# Altium integrated library IntegratedCircuit - Copy.IntLib: 190 symbols (part 3 of 3)
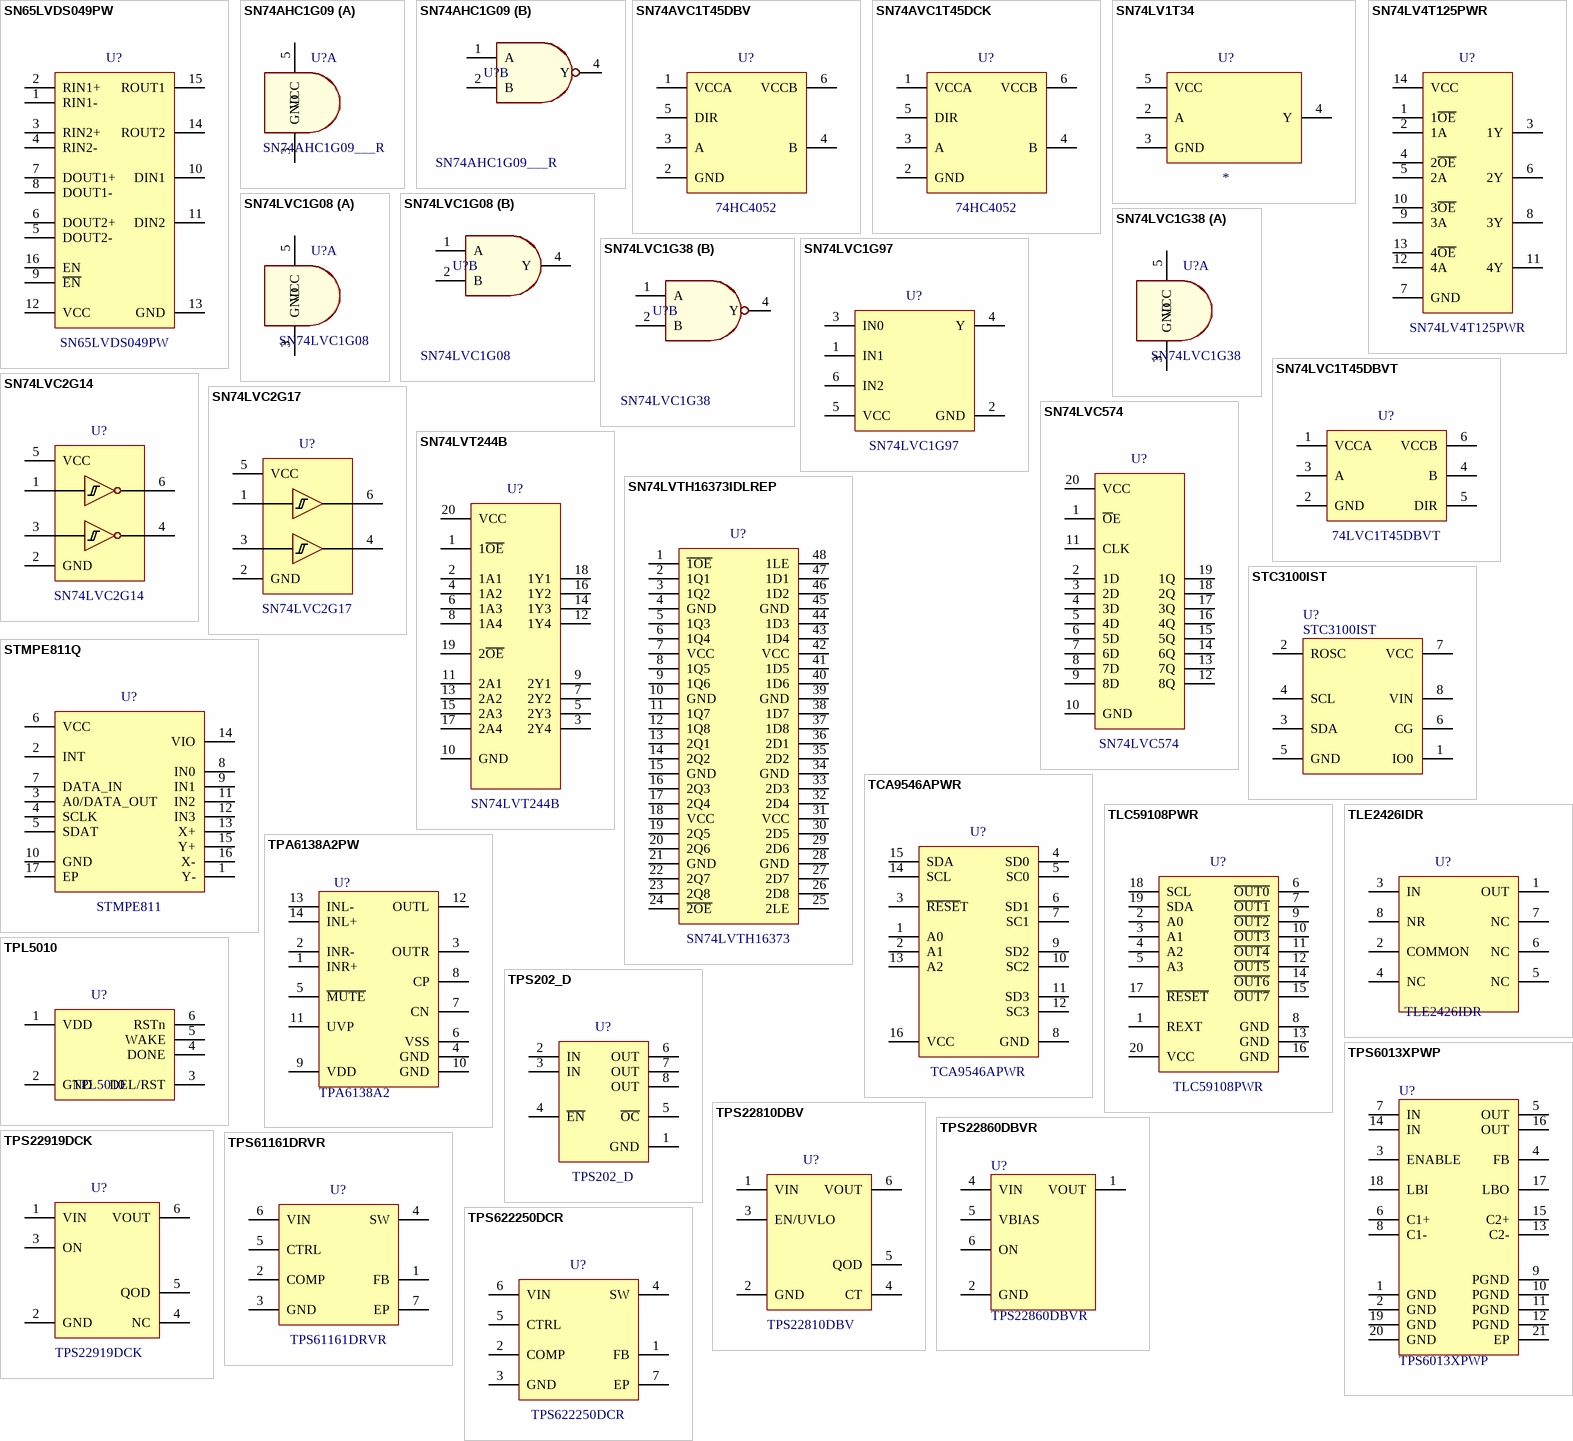
[diagram p11: symbols SN65LVDS049PW to TPS622250DCR]

## TLE2426IDR
designator U?
Références de tension Rail Virtual Ground; Manufacturer: Texas Instruments; Value: TLE2426IDR; Mouser No.: 595-TLE2426IDR
footprint SO8 P1.27 C4.0X5.0 H1.75 (8-Pin Small Outline Integrated Circuit 1.27 mm Pitch, IPC Medium Density)
pins: 1 OUT "Ground", 2 COMMON "Input voltage", 3 IN "Input voltage", 4 NC "Enable input. Logic-low turns on power switch.", 5 NC "Overcurrent. Logic output, active-low", 6 NC "Power-switch output", 7 NC "Power-switch output", 8 NR "Power-switch output"

## TPA6138A2PW
designator U?, comment TPA6138A2
DirectPath Headphone Driver With Adjustable Gain; Value: TPA6138A2
footprint TSSOP14 P0.65 C4.4x5.0 H1.1 (TSSOP, 14-Leads, Body 5x4.4mm, Pitch 0.65mm, IPC Medium Density)
pins: 1 INR+ "Right-channel OPAMP positive input", 2 INR- "Right-channel OPAMP negative input", 3 OUTR "Right-channel OPAMP output", 4 GND "Ground", 5 ~{MUTE} "Mute, active-low", 6 VSS "Supply voltage", 7 CN "Charge-pump flying capacitor negative connection", 8 CP "Charge-pump flying capacitor positive connection", 9 VDD "Positive supply", 10 GND "Ground", 11 UVP "Undervoltage protection; internal pull-up, unconnected if UVP function is unused.", 12 OUTL "Left-channel OPAMP output", 13 INL- "Left-channel OPAMP negative input", 14 INL+ "Left-channel OPAMP positive input"

## TPL5010
designator U?
Nano-PowerSystemTimer With WatchdogFunction; Value: TPL5010
footprint SOT23-6 P0.95 C1.5x3.0 H1.3 (SOT23, 6-Leads, Body 1.6x3.0mm, Pitch 0.95mm, IPC Medium Density)
pins: 1 VDD, 2 GND, 3 DEL/RST, 4 DONE, 5 WAKE, 6 RSTn

## TPS202_D
designator U?
Power distribution switch; Value: TPS202_D
footprint SO8 P1.27 C4.0X5.0 H1.75 (8-Pin Small Outline Integrated Circuit 1.27 mm Pitch, IPC Medium Density)
pins: 1 GND "Ground", 2 IN "Input voltage", 3 IN "Input voltage", 4 ~{EN} "Enable input. Logic-low turns on power switch.", 5 ~{OC} "Overcurrent. Logic output, active-low", 6 OUT "Power-switch output", 7 OUT "Power-switch output", 8 OUT "Power-switch output"

## TPS6013XPWP
designator U?
Regulated 5-V, 300-mA High-Efficiency Charge Pump DC-DC Converters; Value: TPS6013XPWP
footprint TSSOP20 P0.65 T2.4x3.4 C4.4x6.6 H1.2 (SOP, 20-Leads, Body 6.4x4.4mm, Pitch 0.65mm, Thermal Pad 2.4x3.4mm, IPC Medium Density)
pins: 1 GND (power) "Ground. Analog ground for internal reference and control circuitry. Connect to PGND through a short trace.", 2 GND (power) "Ground. Analog ground for internal reference and control circuitry. Connect to PGND through a short trace.", 3 ENABLE "ENABLE input. Connect ENABLE to IN for normal operation. When ENABLE is a logic low, the device turns off and the supply current decreases to 0.05 uA. The output is disconnected from the input when the device is placed in (See Datasheet)", 4 FB "Feedback input. Connect FB to OUT as close to the load as possible to achieve best regulation. Resistive divider is on the chip to match the internal reference voltage of 1.21 V.", 5 OUT (power) "Regulated power output. Connect both OUT terminals through a short trace and bypass OUT to GND with the output filter capacitor CO.", 6 C1+ "Positive terminal of the flying capacitor C1", 7 IN (power) "Supply input. Connect to an input supply in the 1.8-V to 3.6-V range. Bypass IN to PGND with a (CO/2) uF capacitor.Connect both INs through a short trace.", 8 C1- "Negative terminal of the flying capacitor C1", 9 PGND (power) "Power ground. Charge-pump current flows through this pin. Connect all PGND pins together.", 10 PGND (power) "Power ground. Charge-pump current flows through this pin. Connect all PGND pins together.", 11 PGND (power) "Power ground. Charge-pump current flows through this pin. Connect all PGND pins together.", 12 PGND (power) "Power ground. Charge-pump current flows through this pin. Connect all PGND pins together.", 13 C2- "Negative terminal of the flying capacitor C2", 14 IN (power) "Supply input. Connect to an input supply in the 1.8-V to 3.6-V range. Bypass IN to PGND with a (CO/2) uF capacitor.Connect both INs through a short trace.", 15 C2+ "Positive terminal of the flying capacitor C2", 16 OUT (power) "Regulated power output. Connect both OUT terminals through a short trace and bypass OUT to GND with the output filter capacitor CO.", 17 LBO (hiz) "Low battery detector output or power good output. Open drain output of the low battery or power-good comparator.It can sink 1 mA. A 100-kohm to 1-Mohm pullup is recommended. Leave terminal unconnected if not used.", 18 LBI "Low battery detector input (TPS60120/TPS60122/TPS60124 only). The input is compared to the internal 1.21-V reference voltage. Connect terminal to ground if the low-battery detector function is not used. On the (See Datasheet)", 19 GND (power) "Ground. Analog ground for internal reference and control circuitry. Connect to PGND through a short trace.", 20 GND (power) "Ground. Analog ground for internal reference and control circuitry. Connect to PGND through a short trace.", 21 EP "The Thermal Pad."

## TPS22810DBV
designator U?
Load Switch With Thermal Protection; Value: TPS22810DBV
footprint SOT23-6 P0.95 C1.5x3.0 H1.3 (SOT23, 6-Leads, Body 1.6x3.0mm, Pitch 0.95mm, IPC Medium Density)
pins: 1 VIN "Ground", 2 GND "Input voltage", 3 EN/UVLO "Input voltage", 4 CT "Enable input. Logic-low turns on power switch.", 5 QOD "Overcurrent. Logic output, active-low", 6 VOUT "Power-switch output"

## TPS22860DBVR
designator U?
Ultra-Low Leakage Load Switch; Value: TPS22860DBVR
footprint SOT23-6 P0.95 C1.5x3.0 H1.3 (SOT23, 6-Leads, Body 1.6x3.0mm, Pitch 0.95mm, IPC Medium Density)
pins: 1 VOUT "Power-switch output", 2 GND "Input voltage", 4 VIN "Ground", 5 VBIAS "Overcurrent. Logic output, active-low", 6 ON "Input voltage"

## TPS22919DCK
designator U?
Load Switch, Self-Protected with Controlled Rise Time; Value: TPS22919DCK
footprint SC70-6 P0.65 C1.4x2.2 H1.0 (SC70, 6-Leads, Body 2.2x1.40mm, Pitch 0.65mm, IPC Medium Density)
pins: 1 VIN "Ground", 2 GND "Input voltage", 3 ON "Input voltage", 4 NC "Enable input. Logic-low turns on power switch.", 5 QOD "Overcurrent. Logic output, active-low", 6 VOUT "Power-switch output"

## TPS61161DRVR
designator U?
White LED Drivers With Digital and PWM Brightness Control; Value: TPS61161DRVR
footprint WSON6  P0.65 T1.6X1.0 C2.0X2.0 H0.8 (6-Pin Wide Small Outline Integrated Circuit 0.65mm Pitch)
pins: 1 FB, 2 COMP, 3 GND, 4 SW, 5 CTRL, 6 VIN, 7 EP

## TPS622250DCR
designator U?
White LED Drivers With Digital and PWM Brightness Control; Value: TPS622250DCR
footprint WSON6  P0.65 T1.6X1.0 C2.0X2.0 H0.8 (6-Pin Wide Small Outline Integrated Circuit 0.65mm Pitch)
pins: 1 FB, 2 COMP, 3 GND, 4 SW, 5 CTRL, 6 VIN, 7 EP

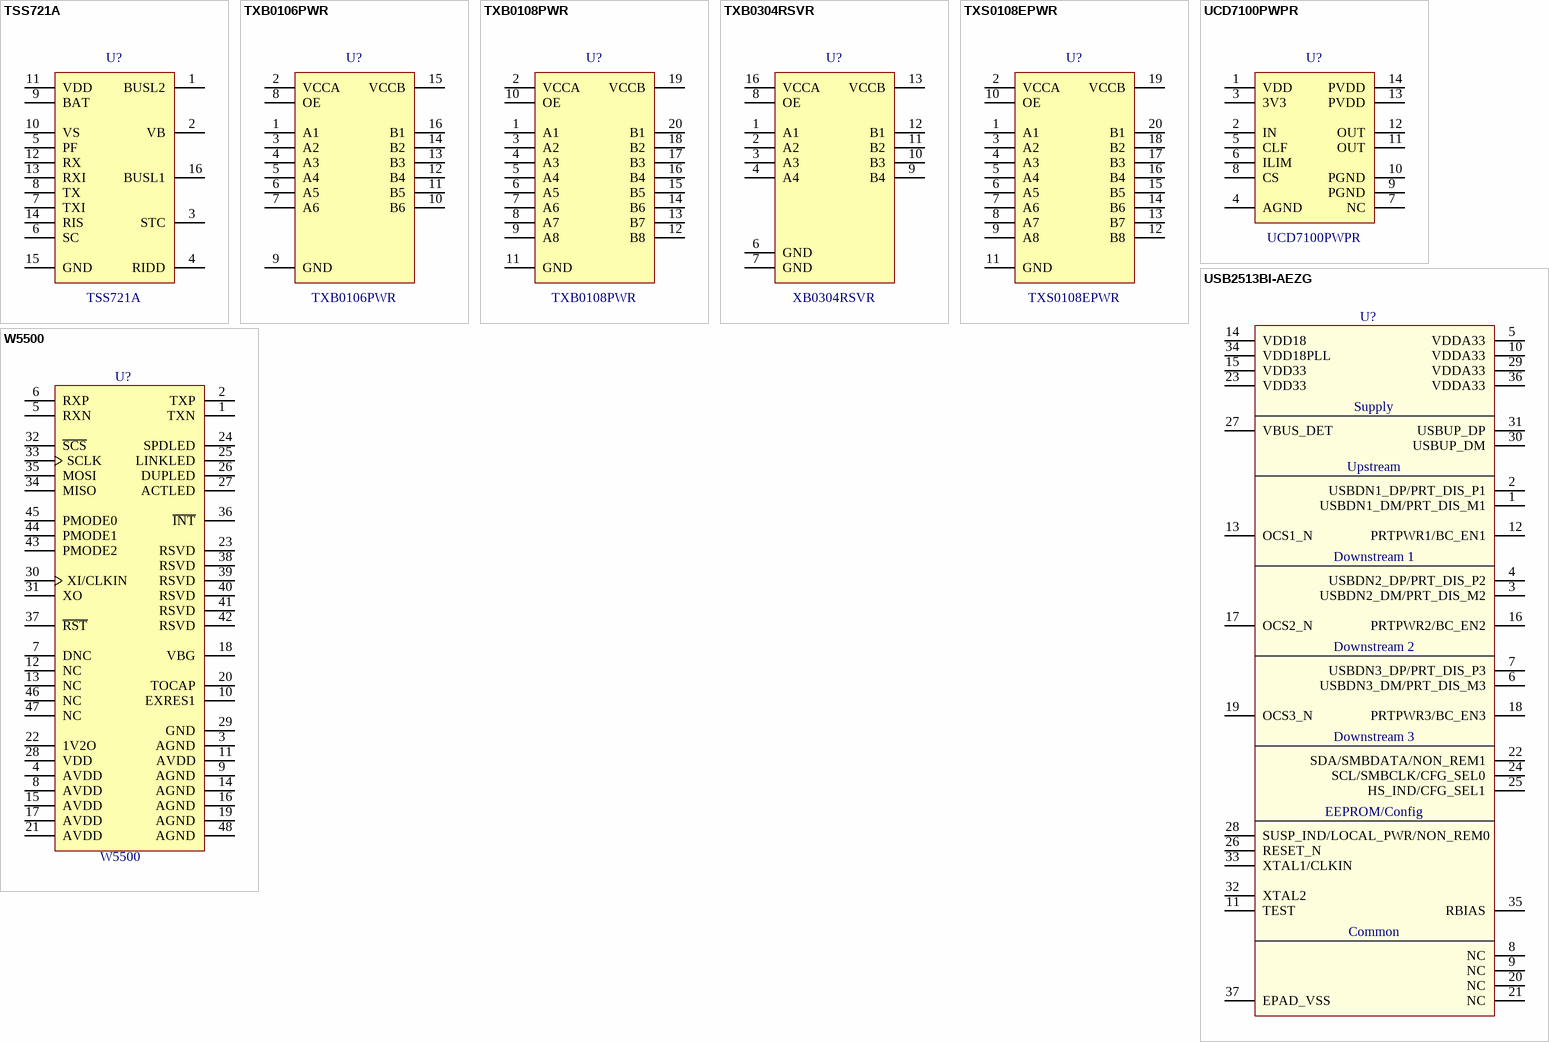
[diagram p9: symbols TSS721A to W5500]

## TSS721A
designator U?
Meter-Bus Transceiver; Value: TSS721A
footprint SO16 P1.27 C4.0x10.2 H1.75 (SOIC, 16-Leads, Body 4.0x10.20mm, Pitch 1.27mm, IPC Medium Density)
pins: 1 BUSL2, 2 VB, 3 STC, 4 RIDD, 5 PF, 6 SC, 7 TXI, 8 TX, 9 BAT, 10 VS, 11 VDD, 12 RX, 13 RXI, 14 RIS, 15 GND, 16 BUSL1

## TXB0106PWR
designator U?
6-Bit Bidirectional Level-Shifting and Voltage Translator / With Auto-Direction Sensing and ±15-kV ESD Protection; Value: TXB0106PWR
footprint TSSOP16 P0.65 C5.0x4.5 H1.1 (TSSOP-16 NXP)
pins: 1 A1, 2 VCCA, 3 A2, 4 A3, 5 A4, 6 A5, 7 A6, 8 OE, 9 GND, 10 B6, 11 B5, 12 B4, 13 B3, 14 B2, 15 VCCB, 16 B1

## TXB0108PWR
designator U?
8-Bit Bidirectional Voltage-Level Translator with Auto-Direction Sensing and  ±15-kV ESD Protection; Value: TXB0108PWR
footprint TSSOP20 P0.65 C6.6X4.4 H1.2 (TSOP, 20-Leads, Body 6.60x4.40mm, Pitch 0.65mm, IPC Medium Density)
pins: 1 A1, 2 VCCA, 3 A2, 4 A3, 5 A4, 6 A5, 7 A6, 8 A7, 9 A8, 10 OE, 11 GND, 12 B8, 13 B7, 14 B6, 15 B5, 16 B4, 17 B3, 18 B2, 19 VCCB, 20 B1

## TXB0304RSVR
designator U?, comment XB0304RSVR
4-Bit Bidirectional Level-Shifter/Voltage Translator with Automatic Direction  Sensing; Value: XB0304RSVR
footprint QFN16 P0.4 C1.8x2.6 H0.55 (QFN, 16-Leads, Body 1.8x2.6mm, Pitch 0.4mm, TI Recommended)
pins: 1 A1, 2 A2, 3 A3, 4 A4, 6 GND, 7 GND, 8 OE, 9 B4, 10 B3, 11 B2, 12 B1, 13 VCCB, 16 VCCA

## TXS0108EPWR
designator U?
TXS0108E 8-Bit Bi-directional, Level-Shifting, Voltage Translator  for Open-Drain and Push-Pull Applications; Value: TXS0108EPWR
footprint TSSOP20 P0.65 C6.6X4.4 H1.2 (TSOP, 20-Leads, Body 6.60x4.40mm, Pitch 0.65mm, IPC Medium Density)
pins: 1 A1, 2 VCCA, 3 A2, 4 A3, 5 A4, 6 A5, 7 A6, 8 A7, 9 A8, 10 OE, 11 GND, 12 B8, 13 B7, 14 B6, 15 B5, 16 B4, 17 B3, 18 B2, 19 VCCB, 20 B1

## UCD7100PWPR
designator U?
Gate Drivers Digital Control Compatible Single; Manufacturer: Texas Instruments; Value: UCD7100PWPR; Mouser No.: 595-UCD7100PWPR
footprint HTSSOP14 P0.65 C4.4X5.0 (HTSOP, 14-Leads, Body 5.00x4.40mm, Pitch 0.65mm, Thermal Pad 2.31x2.46mm)
pins: 1 VDD "Input voltage", 2 IN "Input voltage", 3 3V3 "Enable input. Logic-low turns on power switch.", 4 AGND "Power-switch output", 5 CLF "Power-switch output", 6 ILIM "Power-switch output", 7 NC "Power-switch output", 8 CS "Overcurrent. Logic output, active-low", 9 PGND "Power-switch output", 10 PGND "Power-switch output", 11 OUT "Power-switch output", 12 OUT "Power-switch output", 13 PVDD "Power-switch output", 14 PVDD "Power-switch output"

## USB2513BI-AEZG
designator U?  (value not drawn)
USB 2.0 High-Speed 3-Port Hub Controller; Value: *
footprint QFN36 P0.5 T3.7X3.7 C6.0X6.0 H1.0
pins: 1 USBDN1_DM/PRT_DIS_M1, 2 USBDN1_DP/PRT_DIS_P1, 3 USBDN2_DM/PRT_DIS_M2, 4 USBDN2_DP/PRT_DIS_P2, 5 VDDA33, 6 USBDN3_DM/PRT_DIS_M3, 7 USBDN3_DP/PRT_DIS_P3, 8 NC, 9 NC, 10 VDDA33, 11 TEST, 12 PRTPWR1/BC_EN1, 13 OCS1_N, 14 VDD18, 15 VDD33, 16 PRTPWR2/BC_EN2, 17 OCS2_N, 18 PRTPWR3/BC_EN3, 19 OCS3_N, 20 NC, 21 NC, 22 SDA/SMBDATA/NON_REM1, 23 VDD33, 24 SCL/SMBCLK/CFG_SEL0, 25 HS_IND/CFG_SEL1, 26 RESET_N, 27 VBUS_DET, 28 SUSP_IND/LOCAL_PWR/NON_REM0, 29 VDDA33, 30 USBUP_DM, 31 USBUP_DP, 32 XTAL2, 33 XTAL1/CLKIN, 34 VDD18PLL, 35 RBIAS, 36 VDDA33, 37 EPAD_VSS
text: Supply; Upstream; Downstream 1; Downstream 2; Downstream 3; EEPROM/Config; Common

## W5500
designator U?
Hardwired TCP/IP embedded Ethernet controller; Value: W5500
footprint LQFP48 P0.5 C7.0X7.0 H1.6 (TSQFP, 48-Leads, Body 7.00x7.00mm, Pitch 0.50mm, IPC Medium Density)
pins: 1 TXN "TXP/TXN Signal Pair", 2 TXP "TXP/TXN Signal Pair", 3 AGND "Analog ground", 4 AVDD "Analog 3.3V power", 5 RXN "RXP/RXN Signal Pair", 6 RXP "RXP/RXN Signal Pair", 7 DNC "Do Not Connect Pin", 8 AVDD "Analog 3.3V power", 9 AGND "Analog ground", 10 EXRES1 "External Reference Resistor", 11 AVDD "Analog 3.3V power", 12 NC "Not connected", 13 NC "Not connected", 14 AGND "Analog ground", 15 AVDD "Analog 3.3V power", 16 AGND "Analog ground", 17 AVDD "Analog 3.3V power", 18 VBG "Band Gap Output Voltage, This pin will be measured as 1.2V at 25 degC. It must be left floating.", 19 AGND "Analog ground", 20 TOCAP "External Reference Capacitor, This pin must be connected to a 4.7uF capacitor. The trace length to capacitor should be short to stabilize the internal signals.", 21 AVDD "Analog 3.3V power", 22 1V2O "1.2V Regulator output voltage", 23 RSVD "It must be tied to GND.", 24 SPDLED "Speed LED, This shows the Speed status of the connected link.", 25 LINKLED "Link LED, This shows the Link status.", 26 DUPLED "Duplex LED, This shows the Duplex status for the connected link.", 27 ACTLED "Active LED, This shows that there is Carrier sense (CRS) from the active Physical Medium Sub-layer (PMD) during TX or RX activity.", 28 VDD "Digital 3.3V Power", 29 GND "Digital Ground", 30 XI/CLKIN "Crystal input / External Clock input", 31 XO "Crystal output, External 25MHz Crystal Output", 32 ~{SCS} "Chip Select for SPI bus, This pin can be asserted low to select W5500 in SPI interface.", 33 SCLK "SPI clock input, This pin is used to receive SPI Clock from SPI master.", 34 MISO "SPI master input slave(W5500) output", 35 MOSI "SPI master output slave(W5500) input", 36 ~{INT} "Interrupt output", 37 ~{RST} "Reset, RESET should be held low at least 500 us for W5500 reset.", 38 RSVD "Not connected", 39 RSVD "Not connected", 40 RSVD "Not connected", 41 RSVD "Not connected", 42 RSVD "Not connected", 43 PMODE2 "PHY Operation mode select pin", 44 PMODE1 "PHY Operation mode select pin", 45 PMODE0 "PHY Operation mode select pin", 46 NC "Not connected", 47 NC "Not connected", 48 AGND "Analog ground"